# EAGLE library part TI-TPS62730 (library gclueSupply)
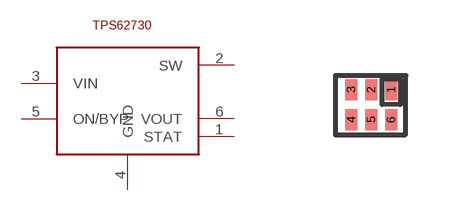
[diagram p0: symbol with the pads of TI-TPS62730; footprint TI-TPS62730]

Designator prefix TPS62730

## TI-TPS62730  [TI-TPS62730]
1  STAT
2  SW
3  VIN
4  GND
5  ON/BYP
6  VOUT

## Footprint TI-TPS62730 (pad centres in mm)
TPS62730 Datasheet
smd 0.3 x 0.52: 1 0.48,0.25; 2 -0.02,0.25; 3 -0.52,0.25; 4 -0.52,-0.5; 5 -0.02,-0.5; 6 0.48,-0.5